# Altium footprint library Ext-Molex.PcbLib: 1 footprints
Each footprint in its own frame and in the unit in brackets; x right, y up, seen from the top. Pads: shape width x height; smd on the part's side, far side on the other; paste and mask are expansions set on the pad; w line width, h text height; cw(c..) or ccw(c..) is an arc to the next point about the centre after c.
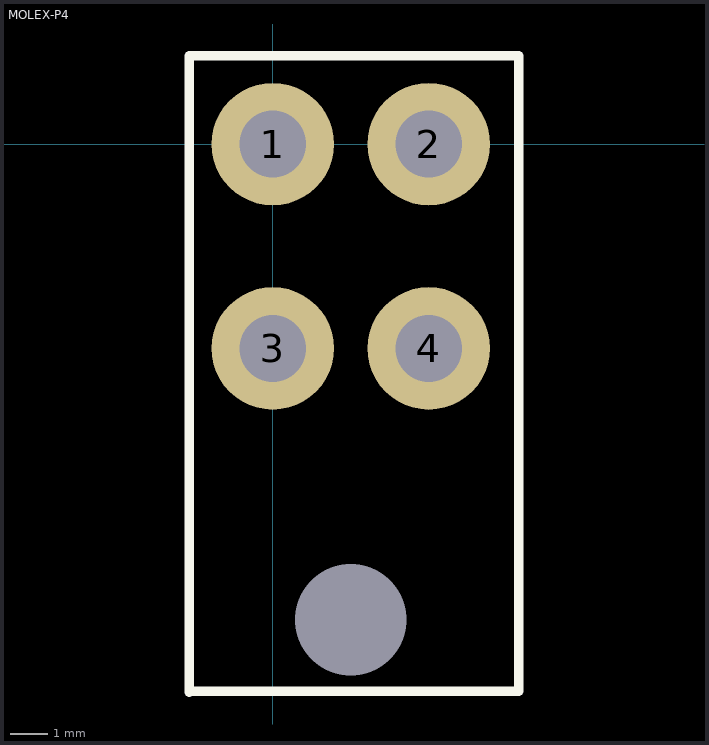
[diagram p0: the footprint, top view; thin cyan lines are the x and y axes]

## MOLEX-P4 [mm]
pads (5):
  round 3.3 hole 1.8: 1(0,0) 2(4.2,0) 3(0,-5.5) 4(4.2,-5.5)
  round 0 hole 3: ""(2.1,-12.8)
Top Overlay:
  lines w0.254: -2.25,-14.75 -2.25,2.35 ; -2.25,-14.725 6.625,-14.725 ; -2.25,2.375 6.625,2.375 ; 6.625,-14.7 6.625,2.35